# Altium schematic symbol library MCSJK-7U-24.00.SchLib: 1 symbol
Pins are listed as number, name and electrical type; pins without a type are passive.

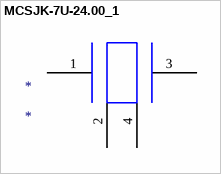
[diagram p0: symbol MCSJK-7U-24.00_1]

## MCSJK-7U-24.00_1
designator *
footprint MCSJK-7U-24.00_1
pins: 1 (power), 2, 3 (power), 4